# EAGLE library part 3.3V-REGULATOR (library CAN-D)
LDO Voltage Regulators 2 A high PSRR ultra low drop linear regulator with reverse current protection Source: Datasheet <https://www.st.com/resource/en/datasheet/ld39200.pdf>
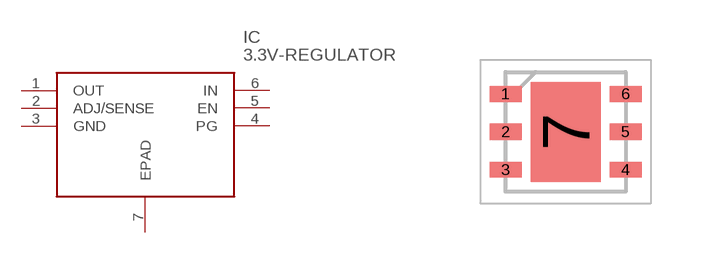
[diagram p1: symbol with the pads of LD39200PU33R; footprint LD39200PU33R]

Designator prefix IC

## 3.3V-REGULATOR (DESCRIPTION: LDO Voltage Regulators 2 A high PSRR ultra low drop linear regulator with reverse current protection; HEIGHT: 1mm; MANUFACTURER_NAME: STMicroelectronics; MANUFACTURER_PART_NUMBER: LD39200PU33R; MOUSER_PART_NUMBER: 511-LD39200PU33R; MOUSER_PRICE-STOCK: https://www.mouser.com/Search/Refine.aspx?Keyword=511-LD39200PU33R)  [LD39200PU33R]
1  OUT
2  ADJ/SENSE
3  GND
4  PG
5  EN
6  IN
7  EPAD

## Footprint LD39200PU33R (pad centres in mm)
DFN6 (3x3)
smd 0.8 x 0.4: 1 -1.5,0.95; 2 -1.5,0; 3 -1.5,-0.95; 4 1.5,-0.95; 5 1.5,0; 6 1.5,0.95
smd 1.75 x 2.5: 7 0,0